# Altium schematic symbol library ST25DV04K.SchLib: 1 symbol
Pins are listed as number, name and electrical type; pins without a type are passive.

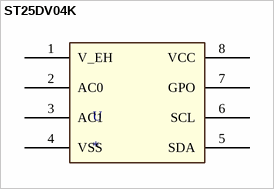
[diagram p0: symbol ST25DV04K]

## ST25DV04K
designator U
footprint PCBComponent_1
pins: 1 V_EH, 2 AC0, 3 AC1, 4 VSS, 5 SDA, 6 SCL, 7 GPO, 8 VCC